# EAGLE library part DF13-8P-S (library con-Hirose)
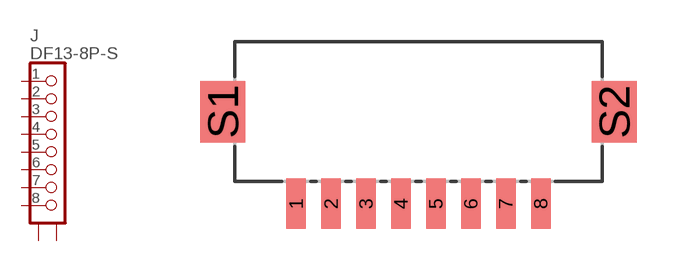
[diagram p11: symbol with the pads of DF13A-8P-1.25H; footprint DF13A-8P-1.25H]

Designator prefix J

## DF13-8P-S  [DF13A-8P-1.25H]
1  1  pas
2  2  pas
3  3  pas
4  4  pas
5  5  pas
6  6  pas
7  7  pas
8  8  pas
S1  S1  pas
S2  S2  pas

## Footprint DF13A-8P-1.25H (pad centres in mm)
smd 0.7 x 1.8: 1 -4.375,-3.3; 2 -3.125,-3.3; 3 -1.875,-3.3; 4 -0.625,-3.3; 5 0.625,-3.3; 6 1.875,-3.3; 7 3.125,-3.3; 8 4.375,-3.3
smd 1.6 x 2.2: S1 -7,0; S2 7,0